# EAGLE library part ESP-PROG_PROGRAM_HEADER (library ESP-PROG)
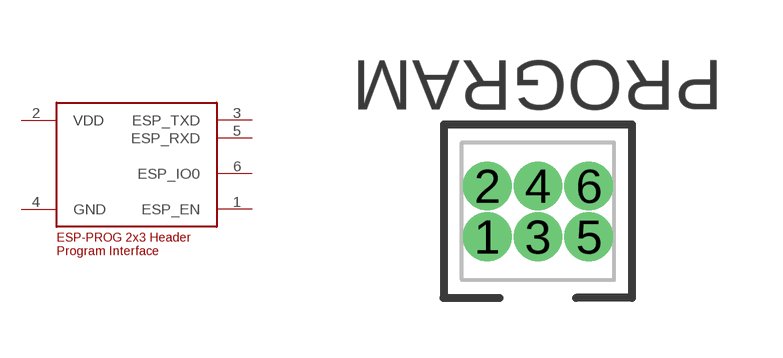
[diagram p1: symbol with the pads of SAMTEC-FTS-103-01-X-D; footprint SAMTEC-FTS-103-01-X-D]

Designator prefix -

## ESP-PROG_PROGRAM_HEADER  [SAMTEC-FTS-103-01-X-D]
1  ESP_EN
2  VDD
3  ESP_TXD
4  GND
5  ESP_RXD
6  ESP_IO0

## Footprint SAMTEC-FTS-103-01-X-D (pad centres in mm)
translated Allegro footprint
drill 0.71 pad 1.143: 1 -1.27,-0.635; 2 -1.27,0.635; 3 0,-0.635; 4 0,0.635; 5 1.27,-0.635; 6 1.27,0.635